# Altium footprint library RN4678-VRM122.PcbLib: 1 footprints
Each footprint in its own frame and in the unit in brackets; x right, y up, seen from the top. Pads: shape width x height; smd on the part's side, far side on the other; paste and mask are expansions set on the pad; w line width, h text height; cw(c..) or ccw(c..) is an arc to the next point about the centre after c.
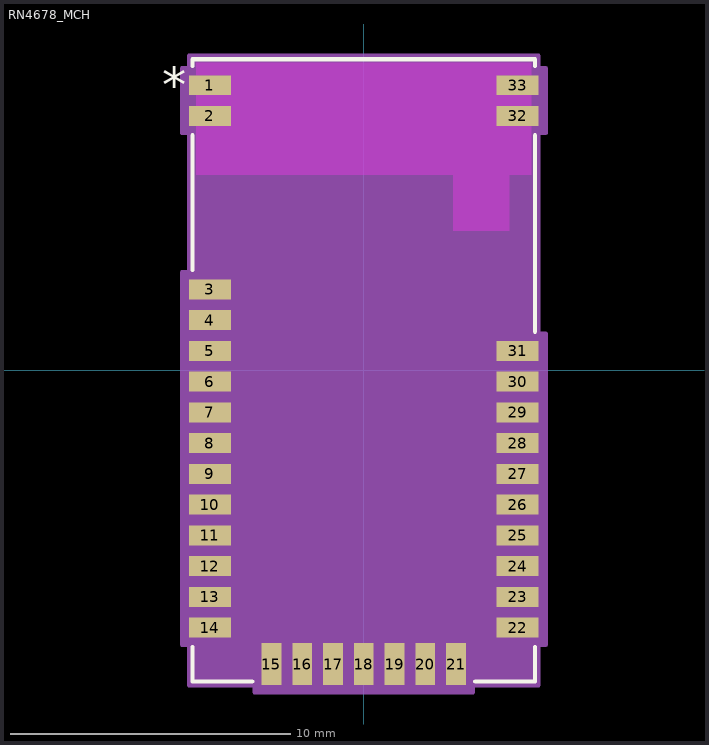
[diagram p0: the footprint, top view; thin cyan lines are the x and y axes]

## RN4678_MCH [mil]
pads (33):
  rect 59x28 smd paste+0 mask+0: 1(-216.55,401.6) 2(-216.55,358.3) 3(-216.55,114.2) 4(-216.55,70.9) 5(-216.55,27.6) 6(-216.55,-15.7) 7(-216.55,-59) 8(-216.55,-102.3) 9(-216.55,-145.6) 10(-216.55,-188.9) 11(-216.55,-232.2) 12(-216.55,-275.5) 13(-216.55,-318.8) 14(-216.55,-362.1) 22(216.55,-362.1) 23(216.55,-318.8) 24(216.55,-275.5) 25(216.55,-232.2) 26(216.55,-188.9) 27(216.55,-145.6) 28(216.55,-102.3) 29(216.55,-59) 30(216.55,-15.7) 31(216.55,27.6) 32(216.55,358.3) 33(216.55,401.6)
  rect 28x59 smd paste+0 mask+0: 15(-129.9,-413.4) 16(-86.6,-413.4) 17(-43.3,-413.4) 18(0,-413.4) 19(43.3,-413.4) 20(86.6,-413.4) 21(129.9,-413.4)
Top Overlay:
  lines w6: -241,-389.2 -241,-438 -157,-438 ; -241,141.3 -241,331.2 ; -241,428.7 -241,438 241,438 241,428.7 ; 157,-438 241,-438 241,-389.2 ; 241,54.7 241,331.2
  text "*" at -283.55,376.6 h50
Keep-Out Layer:
  region: 236,433 -236,433 -236,415.6 -187.05,415.6 -187.05,387.6 -236,387.6 -236,372.3 -187.05,372.3 -187.05,344.3 -236,344.3 -236,275.7 125.9,275.7 125.9,196.7 204.9,196.7 204.9,275.7 236,275.7 236,344.3 187.05,344.3 187.05,372.3 236,372.3 236,387.6 187.05,387.6 187.05,415.6 236,415.6
Mechanical 13:
  lines w1: -236,-433 236,-433 236,433 -236,433 -236,-433
  text "*" at -174.55,376.6 h50
Mechanical 15:
  region: 256.05,-386.1 256.05,51.6 246,51.6 246,334.3 256.05,334.3 256.05,425.6 246,425.6 246,443 -246,443 -246,425.6 -256.05,425.6 -256.05,334.3 -246,334.3 -246,138.2 -256.05,138.2 -256.05,-386.1 -246,-386.1 -246,-443 -153.9,-443 -153.9,-452.9 153.9,-452.9 153.9,-443 246,-443 246,-386.1
  lines w6: -256.05,-386.1 -256.05,138.2 -246,138.2 -246,334.3 -256.05,334.3 -256.05,425.6 -246,425.6 -246,443 246,443 246,425.6 256.05,425.6 256.05,334.3 246,334.3 246,51.6 256.05,51.6 256.05,-386.1 246,-386.1 246,-443 153.9,-443 153.9,-452.9 -153.9,-452.9 -153.9,-443 -246,-443 -246,-386.1 -256.05,-386.1